# EAGLE library part SIP7XA (library rezistory)
Rezistorová sít
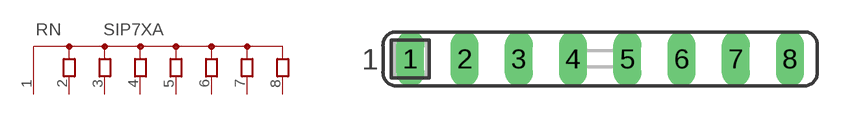
[diagram p6: symbol with the pads of SIL8; footprint SIL8]

Designator prefix RN

## SIP7XA  [SIL8]
1  IN  pas
2  B8  pas
3  B7  pas
4  B6  pas
5  B5  pas
6  B4  pas
7  B3  pas
8  B2  pas

## Footprint SIL8 (pad centres in mm)
drill 0.813 long: 1 -8.89,0; 2 -6.35,0; 3 -3.81,0; 4 -1.27,0; 5 1.27,0; 6 3.81,0; 7 6.35,0; 8 8.89,0